# EAGLE library part 36PINEDGE-F (library 838_Components)
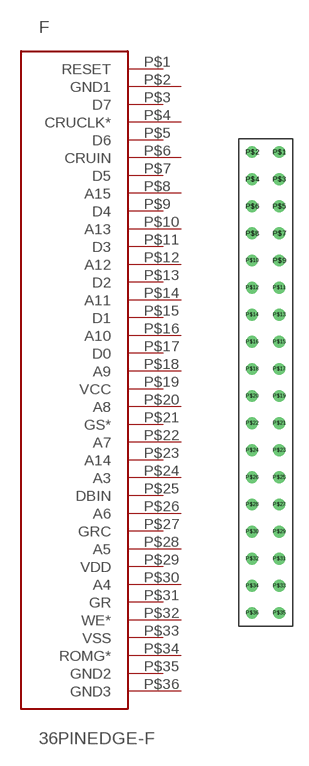
[diagram p1: symbol with the pads of 36PINEDGE; footprint 36PINEDGE]

Designator prefix F

## 36PINEDGE-F  [36PINEDGE]
P$1  RESET
P$2  GND1
P$3  D7
P$4  CRUCLK*
P$5  D6
P$6  CRUIN
P$7  D5
P$8  A15
P$9  D4
P$10  A13
P$11  D3
P$12  A12
P$13  D2
P$14  A11
P$15  D1
P$16  A10
P$17  D0
P$18  A9
P$19  VCC
P$20  A8
P$21  GS*
P$22  A7
P$23  A14
P$24  A3
P$25  DBIN
P$26  A6
P$27  GRC
P$28  A5
P$29  VDD
P$30  A4
P$31  GR
P$32  WE*
P$33  VSS
P$34  ROMG*
P$35  GND2
P$36  GND3

## Footprint 36PINEDGE (pad centres in mm)
drill 0.6: P$1 -12.7,20.32; P$2 -15.24,20.32; P$3 -12.7,17.78; P$4 -15.24,17.78; P$5 -12.7,15.24; P$6 -15.24,15.24; P$7 -12.7,12.7; P$8 -15.24,12.7; P$9 -12.7,10.16; P$10 -15.24,10.16; P$11 -12.7,7.62; P$12 -15.24,7.62; P$13 -12.7,5.08; P$14 -15.24,5.08; P$15 -12.7,2.54; P$16 -15.24,2.54; P$17 -12.7,0; P$18 -15.24,0; P$19 -12.7,-2.54; P$20 -15.24,-2.54; P$21 -12.7,-5.08; P$22 -15.24,-5.08; P$23 -12.7,-7.62; P$24 -15.24,-7.62; P$25 -12.7,-10.16; P$26 -15.24,-10.16; P$27 -12.7,-12.7; P$28 -15.24,-12.7; P$29 -12.7,-15.24; P$30 -15.24,-15.24; P$31 -12.7,-17.78; P$32 -15.24,-17.78; P$33 -12.7,-20.32; P$34 -15.24,-20.32; P$35 -12.7,-22.86; P$36 -15.24,-22.86